# EAGLE library part M66 (library Quectel)
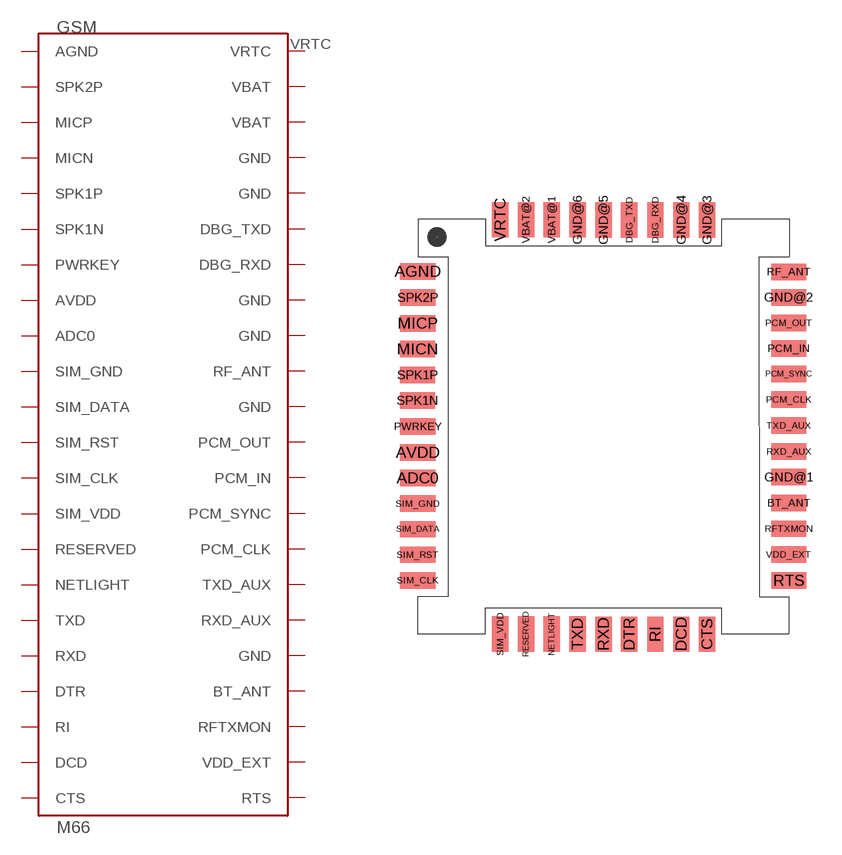
[diagram p1: symbol with the pads of M66; footprint M66]

Designator prefix GSM

## M66  [M66]
ADC0  ADC0
AGND  AGND
AVDD  AVDD
BT_ANT  BT_ANT
CTS  CTS
DBG_RXD  DBG_RXD
DBG_TXD  DBG_TXD
DCD  DCD
DTR  DTR
GND@1  GND
GND@2  GND
GND@3  GND
GND@4  GND
GND@5  GND
GND@6  GND
MICN  MICN
MICP  MICP
NETLIGHT  NETLIGHT
PCM_CLK  PCM_CLK
PCM_IN  PCM_IN
PCM_OUT  PCM_OUT
PCM_SYNC  PCM_SYNC
PWRKEY  PWRKEY
RESERVED  RESERVED
RF_ANT  RF_ANT
RFTXMON  RFTXMON
RI  RI
RTS  RTS
RXD  RXD
RXD_AUX  RXD_AUX
SIM_CLK  SIM_CLK
SIM_DATA  SIM_DATA
SIM_GND  SIM_GND
SIM_RST  SIM_RST
SIM_VDD  SIM_VDD
SPK1N  SPK1N
SPK1P  SPK1P
SPK2P  SPK2P
TXD  TXD
TXD_AUX  TXD_AUX
VBAT@1  VBAT
VBAT@2  VBAT
VDD_EXT  VDD_EXT
VRTC  VRTC

## Footprint M66 (pad centres in mm)
smd 1.5 x 0.7: ADC0 -7.53,-3.08; AGND -7.53,5.73; AVDD -7.53,-1.99; BT_ANT 8.31,-4.14; GND@1 8.31,-3.04; GND@2 8.3,4.63; MICN -7.54,2.42; MICP -7.53,3.52; PCM_CLK 8.3,0.27; PCM_IN 8.3,2.45; PCM_OUT 8.3,3.54; PCM_SYNC 8.3,1.36; PWRKEY -7.53,-0.88; RF_ANT 8.3,5.72; RFTXMON 8.3,-5.24; RTS 8.3,-7.45; RXD_AUX 8.31,-1.95; SIM_CLK -7.53,-7.44; SIM_DATA -7.53,-5.26; SIM_GND -7.53,-4.17; SIM_RST -7.53,-6.35; SPK1N -7.54,0.23; SPK1P -7.54,1.32; SPK2P -7.53,4.62; TXD_AUX 8.3,-0.84; VDD_EXT 8.3,-6.34
smd 0.7 x 1.5: CTS 4.82,-9.74; DBG_RXD 2.61,7.93; DBG_TXD 1.5,7.93; DCD 3.72,-9.74; DTR 1.5,-9.74; GND@3 4.82,7.93; GND@4 3.72,7.93; GND@5 0.4,7.93; GND@6 -0.71,7.94; NETLIGHT -1.81,-9.73; RESERVED -2.91,-9.73; RI 2.61,-9.74; RXD 0.4,-9.74; SIM_VDD -4.01,-9.73; TXD -0.71,-9.73; VBAT@1 -1.81,7.94; VBAT@2 -2.91,7.94; VRTC -4.01,7.94